# Altium footprint library Buttons.PcbLib: 1 footprints
Each footprint in its own frame and in the unit in brackets; x right, y up, seen from the top. Pads: shape width x height; smd on the part's side, far side on the other; paste and mask are expansions set on the pad; w line width, h text height; cw(c..) or ccw(c..) is an arc to the next point about the centre after c.
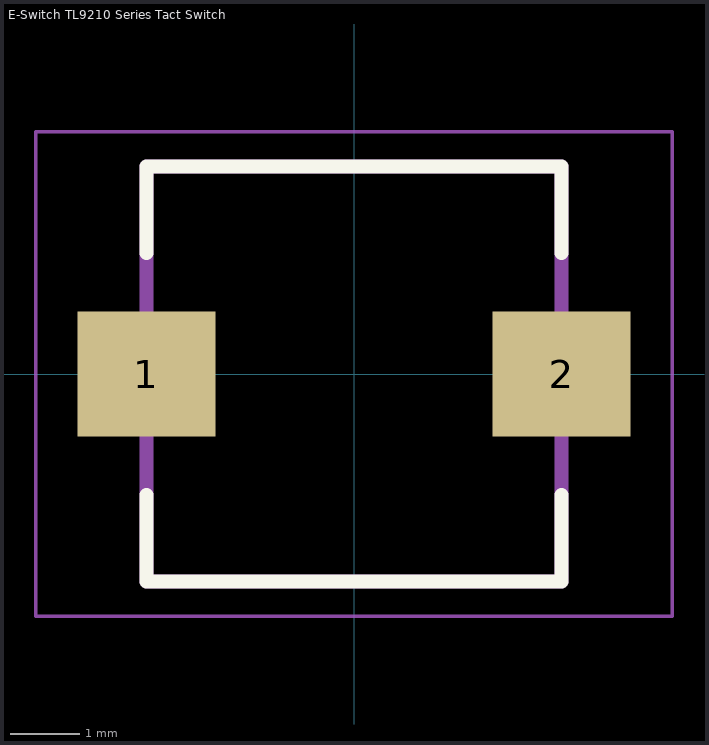
[diagram p0: the footprint, top view; thin cyan lines are the x and y axes]

## E-Switch TL9210 Series Tact Switch [mm]
pads (2):
  rect 2x1.8 smd: 1(-3,0) 2(3,0)
Top Overlay:
  lines w0.2: -3,-1.75 -3,-3 3,-3 3,-1.75 ; -3,1.75 -3,3 3,3 3,1.75
Top Assembly:
  lines w0.2: -3,-3 -3,3 3,3 3,-3 -3,-3
Top Courtyard:
  lines w0.05: -4.6,-3.5 -4.6,3.5 4.6,3.5 4.6,-3.5 -4.6,-3.5
3D body "ESWITCH_TL9210AFxxxx.stp": height 5, standoff 0, extent -3.4,-3 3.4,3